# Altium footprint library footprint_hall_crossboard_1_1_library.PcbLib: 95 footprints (part 2 of 7)
Each footprint in its own frame and in the unit in brackets; x right, y up, seen from the top. Pads: shape width x height; smd on the part's side, far side on the other; paste and mask are expansions set on the pad; w line width, h text height; cw(c..) or ccw(c..) is an arc to the next point about the centre after c.
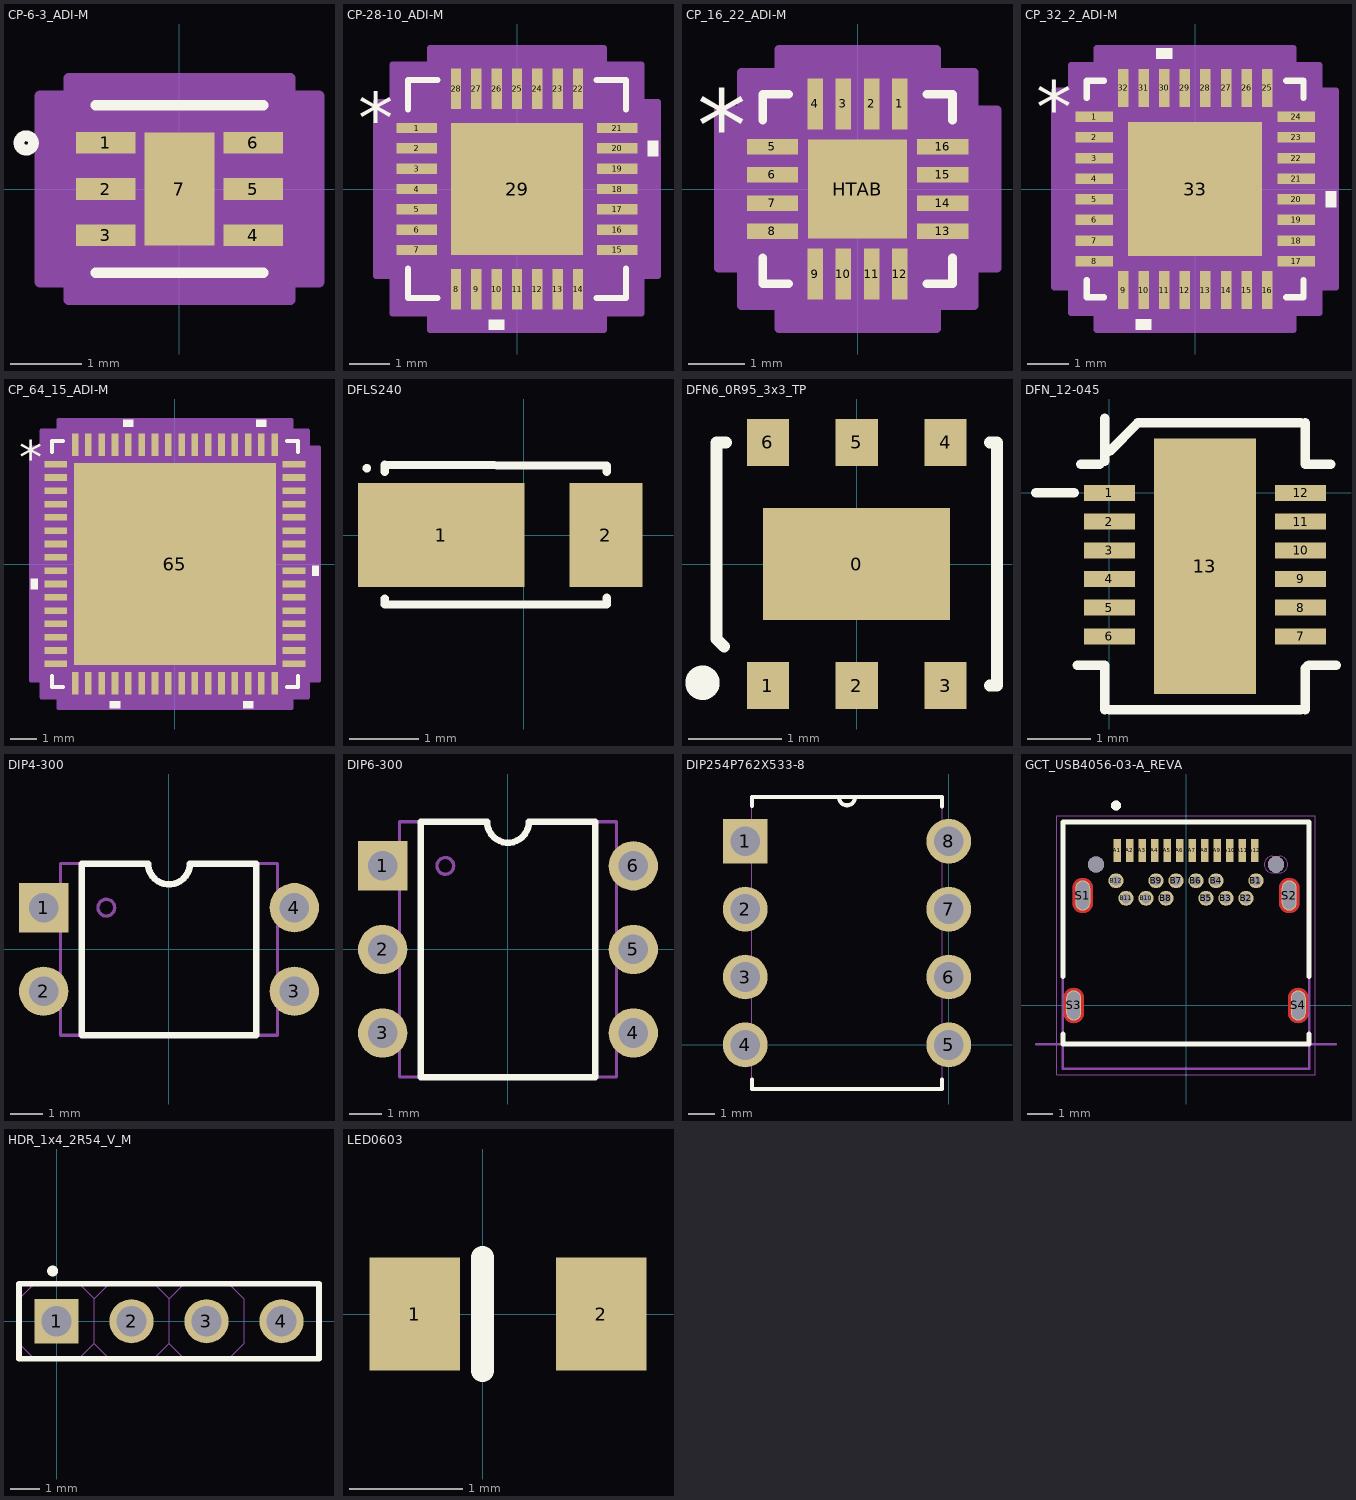
[diagram p1: the footprints below, top view; thin cyan lines are the x and y axes]

## CP-6-3_ADI-M [mil]
pads (7):
  rect 33x12 smd paste+0 mask+0: 1(-41,25.59) 2(-41,0) 3(-41,-25.59) 4(41,-25.59) 5(41,0) 6(41,25.59)
  rect 39x63 smd paste+0 mask+0: 7(0,0)
Top Overlay:
  circle w6: c-85.09,25.59 r4
  lines w6: -46.5,-46.5 46.5,-46.5 ; -46.5,46.5 46.5,46.5
Mechanical 13:
  circle w0: c-24.5,25.59 r3
  lines w0: -12,41.5 ccw(c0,41.5) 12,41.5
  lines w1: -41.5,-41.5 -41.5,41.5 41.5,41.5 41.5,-41.5 -41.5,-41.5
Mechanical 15:
  region: -61.5,-51.59 -77.5,-51.59 -77.5,51.59 -61.5,51.59 -61.5,61.5 61.5,61.5 61.5,51.59 77.5,51.59 77.5,-51.59 61.5,-51.59 61.5,-61.5 -61.5,-61.5
  lines w6: -77.5,-51.59 -61.5,-51.59 -61.5,-61.5 61.5,-61.5 61.5,-51.59 77.5,-51.59 77.5,51.59 61.5,51.59 61.5,61.5 -61.5,61.5 -61.5,51.59 -77.5,51.59 -77.5,-51.59
3D body "CP-6-3_ADI.step": height 24.09, standoff 0, extent -41.5,-41.5 41.5,41.5

## CP-28-10_ADI-M [mil]
pads (29):
  rect 39x10 smd paste+0 mask+0: 1(-97,59.06) 2(-97,39.37) 3(-97,19.68) 4(-97,0) 5(-97,-19.68) 6(-97,-39.37) 7(-97,-59.06) 15(97,-59.06) 16(97,-39.37) 17(97,-19.68) 18(97,0) 19(97,19.68) 20(97,39.37) 21(97,59.06)
  rect 10x39 smd paste+0 mask+0: 8(-59.06,-97) 9(-39.37,-97) 10(-19.68,-97) 11(0,-97) 12(19.68,-97) 13(39.37,-97) 14(59.06,-97) 22(59.06,97) 23(39.37,97) 24(19.68,97) 25(0,97) 26(-19.68,97) 27(-39.37,97) 28(-59.06,97)
  rect 128x128 smd paste-64 mask+0: 29(0,0)
Top Overlay:
  region: 126.5,46.87 136.5,46.87 136.5,31.87 126.5,31.87
  region: -12.19,-126.5 -27.18,-126.5 -27.18,-136.5 -12.19,-136.5
  lines w6: -105.5,-77.16 -105.5,-105.5 -77.16,-105.5 ; -105.5,77.16 -105.5,105.5 -77.16,105.5 ; 77.16,-105.5 105.5,-105.5 105.5,-77.16 ; 77.16,105.5 105.5,105.5 105.5,77.16
  text "*" at -154,43.9 h50
Top Paste:
  region: 60.06,-3.94 3.94,-3.94 3.94,-60.06 60.06,-60.06
  region: 60.06,60.06 3.94,60.06 3.94,3.94 60.06,3.94
  region: -3.94,-3.94 -60.06,-3.94 -60.06,-60.06 -3.94,-60.06
  region: -3.94,60.06 -60.06,60.06 -60.06,3.94 -3.94,3.94
Mechanical 13:
  lines w1: -100.5,50.5 -50.5,100.5 ; -100.5,-100.5 -100.5,100.5 100.5,100.5 100.5,-100.5 -100.5,-100.5 ; -100.5,-65.06 -100.5,-53.06 -100.5,-65.06 ; -100.5,-45.37 -100.5,-33.37 -100.5,-45.37 ; -100.5,-25.68 -100.5,-13.69 -100.5,-25.68 ; -100.5,-6 -100.5,6 -100.5,-6 ; -100.5,13.69 -100.5,25.68 -100.5,13.69 ; -100.5,33.37 -100.5,45.37 -100.5,33.37 ; -100.5,53.06 -100.5,65.06 -100.5,53.06 ; -65.06,-100.5 -53.06,-100.5 -65.06,-100.5 ; -65.06,100.5 -53.06,100.5 -65.06,100.5 ; -45.37,-100.5 -33.37,-100.5 -45.37,-100.5 ; -45.37,100.5 -33.37,100.5 -45.37,100.5 ; -25.68,-100.5 -13.69,-100.5 -25.68,-100.5 ; -25.68,100.5 -13.69,100.5 -25.68,100.5 ; -6,-100.5 6,-100.5 -6,-100.5 ; -6,100.5 6,100.5 -6,100.5 ; 13.69,-100.5 25.68,-100.5 13.69,-100.5 ; 13.69,100.5 25.68,100.5 13.69,100.5 ; 33.37,-100.5 45.37,-100.5 33.37,-100.5 ; 33.37,100.5 45.37,100.5 33.37,100.5 ; 53.06,-100.5 65.06,-100.5 53.06,-100.5 ; 53.06,100.5 65.06,100.5 53.06,100.5 ; 100.5,-65.06 100.5,-53.06 100.5,-65.06 ; 100.5,-45.37 100.5,-33.37 100.5,-45.37 ; 100.5,-25.68 100.5,-13.69 100.5,-25.68 ; 100.5,-6 100.5,6 100.5,-6 ; 100.5,13.69 100.5,25.68 100.5,13.69 ; 100.5,33.37 100.5,45.37 100.5,33.37 ; 100.5,53.06 100.5,65.06 100.5,53.06
  text "*" at -90,43.9 h50
Mechanical 15:
  region: -84.06,-120.5 -120.5,-120.5 -120.5,-84.06 -136.5,-84.06 -136.5,84.06 -120.5,84.06 -120.5,120.5 -84.06,120.5 -84.06,136.5 84.06,136.5 84.06,120.5 120.5,120.5 120.5,84.06 136.5,84.06 136.5,-84.06 120.5,-84.06 120.5,-120.5 84.06,-120.5 84.06,-136.5 -84.06,-136.5
  lines w6: -136.5,-84.06 -136.5,84.06 -120.5,84.06 -120.5,120.5 -84.06,120.5 -84.06,136.5 84.06,136.5 84.06,120.5 120.5,120.5 120.5,84.06 136.5,84.06 136.5,-84.06 120.5,-84.06 120.5,-120.5 84.06,-120.5 84.06,-136.5 -84.06,-136.5 -84.06,-120.5 -120.5,-120.5 -120.5,-84.06 -136.5,-84.06
3D body "CP-28-10_ADI.step": height 32.09, standoff 0, extent -100.51,-100.51 100.51,100.51

## CP_16_22_ADI-M [mm]
pads (17):
  rect 0.275x0.906 smd paste+0 mask+0: 1(0.75,1.503) 2(0.25,1.503) 3(-0.25,1.503) 4(-0.75,1.503) 9(-0.75,-1.503) 10(-0.25,-1.503) 11(0.25,-1.503) 12(0.75,-1.503)
  rect 0.906x0.275 smd paste+0 mask+0: 5(-1.503,0.75) 6(-1.503,0.25) 7(-1.503,-0.25) 8(-1.503,-0.75) 13(1.503,-0.75) 14(1.503,-0.25) 15(1.503,0.25) 16(1.503,0.75)
  rect 1.75x1.75 smd paste+0 mask+0: HTAB(0,0)
Top Overlay:
  lines w0.152: -1.677,-1.22 -1.677,-1.677 -1.22,-1.677 ; -1.677,1.22 -1.677,1.677 -1.22,1.677 ; 1.22,-1.677 1.677,-1.677 1.677,-1.22 ; 1.22,1.677 1.677,1.677 1.677,1.22
  text "*" at -2.837,0.496 h1.27
Mechanical 13:
  lines w0.025: -1.55,-1.55 -1.55,1.55 1.55,1.55 1.55,-1.55 -1.55,-1.55 ; -1.55,-0.9 -1.55,-0.6 -1.55,-0.9 ; -1.55,-0.4 -1.55,-0.1 -1.55,-0.4 ; -1.55,0.1 -1.55,0.4 -1.55,0.1 ; -1.55,0.6 -1.55,0.9 -1.55,0.6 ; -0.9,-1.55 -0.6,-1.55 -0.9,-1.55 ; -0.9,1.55 -0.6,1.55 -0.9,1.55 ; -0.4,-1.55 -0.1,-1.55 -0.4,-1.55 ; -0.4,1.55 -0.1,1.55 -0.4,1.55 ; 0.1,-1.55 0.4,-1.55 0.1,-1.55 ; 0.1,1.55 0.4,1.55 0.1,1.55 ; 0.6,-1.55 0.9,-1.55 0.6,-1.55 ; 0.6,1.55 0.9,1.55 0.6,1.55 ; 1.55,-0.9 1.55,-0.6 1.55,-0.9 ; 1.55,-0.4 1.55,-0.1 1.55,-0.4 ; 1.55,0.1 1.55,0.4 1.55,0.1 ; 1.55,0.6 1.55,0.9 1.55,0.6
  text "*" at -1.408,0.585 h0.64
Mechanical 15:
  region: -1.395,-2.058 -2.058,-2.058 -2.058,-1.395 -2.464,-1.395 -2.464,1.395 -2.058,1.395 -2.058,2.058 -1.395,2.058 -1.395,2.464 1.395,2.464 1.395,2.058 2.058,2.058 2.058,1.395 2.464,1.395 2.464,-1.395 2.058,-1.395 2.058,-2.058 1.395,-2.058 1.395,-2.464 -1.395,-2.464
  lines w0.152: -2.464,-1.395 -2.464,1.395 -2.058,1.395 -2.058,2.058 -1.395,2.058 -1.395,2.464 1.395,2.464 1.395,2.058 2.058,2.058 2.058,1.395 2.464,1.395 2.464,-1.395 2.058,-1.395 2.058,-2.058 1.395,-2.058 1.395,-2.464 -1.395,-2.464 -1.395,-2.058 -2.058,-2.058 -2.058,-1.395 -2.464,-1.395
3D body "CP_16_22_ADI.step": height 0.8, standoff 0, extent -1.55,-1.55 1.55,1.55

## CP_32_2_ADI-M [mil]
pads (33):
  rect 36x10 smd paste+0 mask+0: 1(-96.5,68.9) 2(-96.5,49.21) 3(-96.5,29.53) 4(-96.5,9.84) 5(-96.5,-9.84) 6(-96.5,-29.53) 7(-96.5,-49.21) 8(-96.5,-68.9) 17(96.5,-68.9) 18(96.5,-49.21) 19(96.5,-29.53) 20(96.5,-9.84) 21(96.5,9.84) 22(96.5,29.53) 23(96.5,49.21) 24(96.5,68.9)
  rect 10x36 smd paste+0 mask+0: 9(-68.9,-96.5) 10(-49.21,-96.5) 11(-29.53,-96.5) 12(-9.84,-96.5) 13(9.84,-96.5) 14(29.53,-96.5) 15(49.21,-96.5) 16(68.9,-96.5) 25(68.9,96.5) 26(49.21,96.5) 27(29.53,96.5) 28(9.84,96.5) 29(-9.84,96.5) 30(-29.53,96.5) 31(-49.21,96.5) 32(-68.9,96.5)
  rect 128x128 smd paste-64 mask+0: 33(0,0)
Top Overlay:
  region: -41.71,-124.5 -56.71,-124.5 -56.71,-134.5 -41.71,-134.5
  region: 124.5,-2.34 134.5,-2.34 134.5,-17.34 124.5,-17.34
  region: -22.03,124.5 -37.03,124.5 -37.03,134.5 -22.03,134.5
  lines w6: -103.5,-87 -103.5,-103.5 -87,-103.5 ; -103.5,87 -103.5,103.5 -87,103.5 ; 87,-103.5 103.5,-103.5 103.5,-87 ; 87,103.5 103.5,103.5 103.5,87
  text "*" at -152,53.74 h50
Top Paste:
  region: -3.94,60.06 -60.06,60.06 -60.06,3.94 -3.94,3.94
  region: -3.94,-3.94 -60.06,-3.94 -60.06,-60.06 -3.94,-60.06
  region: 60.06,60.06 3.94,60.06 3.94,3.94 60.06,3.94
  region: 60.06,-3.94 3.94,-3.94 3.94,-60.06 60.06,-60.06
Mechanical 13:
  lines w1: -98.5,48.5 -48.5,98.5 ; -98.5,-98.5 98.5,-98.5 98.5,98.5 -98.5,98.5 -98.5,-98.5 ; -98.5,-74.9 -98.5,-62.9 -98.5,-74.9 ; -98.5,-55.21 -98.5,-43.21 -98.5,-55.21 ; -98.5,-35.53 -98.5,-23.53 -98.5,-35.53 ; -98.5,-15.84 -98.5,-3.84 -98.5,-15.84 ; -98.5,3.84 -98.5,15.84 -98.5,3.84 ; -98.5,23.53 -98.5,35.53 -98.5,23.53 ; -98.5,43.21 -98.5,55.21 -98.5,43.21 ; -98.5,62.9 -98.5,74.9 -98.5,62.9 ; -74.9,-98.5 -62.9,-98.5 -74.9,-98.5 ; -74.9,98.5 -62.9,98.5 -74.9,98.5 ; -55.21,-98.5 -43.21,-98.5 -55.21,-98.5 ; -55.21,98.5 -43.21,98.5 -55.21,98.5 ; -35.53,-98.5 -23.53,-98.5 -35.53,-98.5 ; -35.53,98.5 -23.53,98.5 -35.53,98.5 ; -15.84,-98.5 -3.84,-98.5 -15.84,-98.5 ; -15.84,98.5 -3.84,98.5 -15.84,98.5 ; 3.84,-98.5 15.84,-98.5 3.84,-98.5 ; 3.84,98.5 15.84,98.5 3.84,98.5 ; 23.53,-98.5 35.53,-98.5 23.53,-98.5 ; 23.53,98.5 35.53,98.5 23.53,98.5 ; 43.21,-98.5 55.21,-98.5 43.21,-98.5 ; 43.21,98.5 55.21,98.5 43.21,98.5 ; 62.9,-98.5 74.9,-98.5 62.9,-98.5 ; 62.9,98.5 74.9,98.5 62.9,98.5 ; 98.5,-74.9 98.5,-62.9 98.5,-74.9 ; 98.5,-55.21 98.5,-43.21 98.5,-55.21 ; 98.5,-35.53 98.5,-23.53 98.5,-35.53 ; 98.5,-15.84 98.5,-3.84 98.5,-15.84 ; 98.5,3.84 98.5,15.84 98.5,3.84 ; 98.5,23.53 98.5,35.53 98.5,23.53 ; 98.5,43.21 98.5,55.21 98.5,43.21 ; 98.5,62.9 98.5,74.9 98.5,62.9
  text "*" at -91,53.74 h50
Mechanical 15:
  region: -93.9,-118.5 -118.5,-118.5 -118.5,-93.9 -134.5,-93.9 -134.5,93.9 -118.5,93.9 -118.5,118.5 -93.9,118.5 -93.9,134.5 93.9,134.5 93.9,118.5 118.5,118.5 118.5,93.9 134.5,93.9 134.5,-93.9 118.5,-93.9 118.5,-118.5 93.9,-118.5 93.9,-134.5 -93.9,-134.5
  lines w6: -134.5,-93.9 -118.5,-93.9 -118.5,-118.5 -93.9,-118.5 -93.9,-134.5 93.9,-134.5 93.9,-118.5 118.5,-118.5 118.5,-93.9 134.5,-93.9 134.5,93.9 118.5,93.9 118.5,118.5 93.9,118.5 93.9,134.5 -93.9,134.5 -93.9,118.5 -118.5,118.5 -118.5,93.9 -134.5,93.9 -134.5,-93.9
3D body "CP_32_2_ADI.step": height 39.09, standoff 0, extent -98.5,-98.5 98.5,98.5

## CP_64_15_ADI-M [mm]
pads (65):
  rect 0.856x0.249 smd paste+0 mask+0: 1(-4.478,3.75) 2(-4.478,3.25) 3(-4.478,2.75) 4(-4.478,2.25) 5(-4.478,1.75) 6(-4.478,1.25) 7(-4.478,0.75) 8(-4.478,0.25) 9(-4.478,-0.25) 10(-4.478,-0.75) 11(-4.478,-1.25) 12(-4.478,-1.75) 13(-4.478,-2.25) 14(-4.478,-2.75) 15(-4.478,-3.25) 16(-4.478,-3.75) 33(4.478,-3.75) 34(4.478,-3.25) 35(4.478,-2.75) 36(4.478,-2.25) 37(4.478,-1.75) 38(4.478,-1.25) 39(4.478,-0.75) 40(4.478,-0.25) 41(4.478,0.25) 42(4.478,0.75) 43(4.478,1.25) 44(4.478,1.75) 45(4.478,2.25) 46(4.478,2.75) 47(4.478,3.25) 48(4.478,3.75)
  rect 0.249x0.856 smd paste+0 mask+0: 17(-3.75,-4.478) 18(-3.25,-4.478) 19(-2.75,-4.478) 20(-2.25,-4.478) 21(-1.75,-4.478) 22(-1.25,-4.478) 23(-0.75,-4.478) 24(-0.25,-4.478) 25(0.25,-4.478) 26(0.75,-4.478) 27(1.25,-4.478) 28(1.75,-4.478) 29(2.25,-4.478) 30(2.75,-4.478) 31(3.25,-4.478) 32(3.75,-4.478) 49(3.75,4.478) 50(3.25,4.478) 51(2.75,4.478) 52(2.25,4.478) 53(1.75,4.478) 54(1.25,4.478) 55(0.75,4.478) 56(0.25,4.478) 57(-0.25,4.478) 58(-0.75,4.478) 59(-1.25,4.478) 60(-1.75,4.478) 61(-2.25,4.478) 62(-2.75,4.478) 63(-3.25,4.478) 64(-3.75,4.478)
  rect 7.6x7.6 smd paste-3.787 mask+0: 65(0,0)
Top Overlay:
  region: -5.16,-0.56 -5.414,-0.56 -5.414,-0.941 -5.16,-0.941
  region: -2.06,-5.16 -2.441,-5.16 -2.441,-5.414 -2.06,-5.414
  region: 2.94,-5.16 2.559,-5.16 2.559,-5.414 2.94,-5.414
  region: 5.16,-0.059 5.414,-0.059 5.414,-0.44 5.16,-0.44
  region: 3.441,5.16 3.06,5.16 3.06,5.414 3.441,5.414
  region: -1.559,5.16 -1.94,5.16 -1.94,5.414 -1.559,5.414
  lines w0.152: -4.627,-4.207 -4.627,-4.627 -4.207,-4.627 ; -4.627,4.207 -4.627,4.627 -4.207,4.627 ; 4.207,-4.627 4.627,-4.627 4.627,-4.207 ; 4.207,4.627 4.627,4.627 4.627,4.207
  text "*" at -5.859,3.365 h1.27
Top Paste:
  region: -2.38,3.7 -3.7,3.7 -3.7,2.38 -2.38,2.38
  region: -2.38,2.18 -3.7,2.18 -3.7,0.86 -2.38,0.86
  region: -2.38,0.66 -3.7,0.66 -3.7,-0.66 -2.38,-0.66
  region: -2.38,-0.86 -3.7,-0.86 -3.7,-2.18 -2.38,-2.18
  region: -2.38,-2.38 -3.7,-2.38 -3.7,-3.7 -2.38,-3.7
  region: -0.86,3.7 -2.18,3.7 -2.18,2.38 -0.86,2.38
  region: -0.86,2.18 -2.18,2.18 -2.18,0.86 -0.86,0.86
  region: -0.86,0.66 -2.18,0.66 -2.18,-0.66 -0.86,-0.66
  region: -0.86,-0.86 -2.18,-0.86 -2.18,-2.18 -0.86,-2.18
  region: -0.86,-2.38 -2.18,-2.38 -2.18,-3.7 -0.86,-3.7
  region: 0.66,3.7 -0.66,3.7 -0.66,2.38 0.66,2.38
  region: 0.66,2.18 -0.66,2.18 -0.66,0.86 0.66,0.86
  region: 0.66,0.66 -0.66,0.66 -0.66,-0.66 0.66,-0.66
  region: 0.66,-0.86 -0.66,-0.86 -0.66,-2.18 0.66,-2.18
  region: 0.66,-2.38 -0.66,-2.38 -0.66,-3.7 0.66,-3.7
  region: 2.18,3.7 0.86,3.7 0.86,2.38 2.18,2.38
  region: 2.18,2.18 0.86,2.18 0.86,0.86 2.18,0.86
  region: 2.18,0.66 0.86,0.66 0.86,-0.66 2.18,-0.66
  region: 2.18,-0.86 0.86,-0.86 0.86,-2.18 2.18,-2.18
  region: 2.18,-2.38 0.86,-2.38 0.86,-3.7 2.18,-3.7
  region: 3.7,3.7 2.38,3.7 2.38,2.38 3.7,2.38
  region: 3.7,2.18 2.38,2.18 2.38,0.86 3.7,0.86
  region: 3.7,0.66 2.38,0.66 2.38,-0.66 3.7,-0.66
  region: 3.7,-0.86 2.38,-0.86 2.38,-2.18 3.7,-2.18
  region: 3.7,-2.38 2.38,-2.38 2.38,-3.7 3.7,-3.7
Mechanical 13:
  lines w0.025: -4.5,3.23 -3.23,4.5 ; -4.5,-4.5 4.5,-4.5 4.5,4.5 -4.5,4.5 -4.5,-4.5 ; -4.5,-3.9 -4.5,-3.6 -4.5,-3.9 ; -4.5,-3.4 -4.5,-3.1 -4.5,-3.4 ; -4.5,-2.9 -4.5,-2.6 -4.5,-2.9 ; -4.5,-2.4 -4.5,-2.1 -4.5,-2.4 ; -4.5,-1.9 -4.5,-1.6 -4.5,-1.9 ; -4.5,-1.4 -4.5,-1.1 -4.5,-1.4 ; -4.5,-0.9 -4.5,-0.6 -4.5,-0.9 ; -4.5,-0.4 -4.5,-0.1 -4.5,-0.4 ; -4.5,0.1 -4.5,0.4 -4.5,0.1 ; -4.5,0.6 -4.5,0.9 -4.5,0.6 ; -4.5,1.1 -4.5,1.4 -4.5,1.1 ; -4.5,1.6 -4.5,1.9 -4.5,1.6 ; -4.5,2.1 -4.5,2.4 -4.5,2.1 ; -4.5,2.6 -4.5,2.9 -4.5,2.6 ; -4.5,3.1 -4.5,3.4 -4.5,3.1 ; -4.5,3.6 -4.5,3.9 -4.5,3.6 ; -3.9,-4.5 -3.6,-4.5 -3.9,-4.5 ; -3.9,4.5 -3.6,4.5 -3.9,4.5 ; -3.4,-4.5 -3.1,-4.5 -3.4,-4.5 ; -3.4,4.5 -3.1,4.5 -3.4,4.5 ; -2.9,-4.5 -2.6,-4.5 -2.9,-4.5 ; -2.9,4.5 -2.6,4.5 -2.9,4.5 ; -2.4,-4.5 -2.1,-4.5 -2.4,-4.5 ; -2.4,4.5 -2.1,4.5 -2.4,4.5 ; -1.9,-4.5 -1.6,-4.5 -1.9,-4.5 ; -1.9,4.5 -1.6,4.5 -1.9,4.5 ; -1.4,-4.5 -1.1,-4.5 -1.4,-4.5 ; -1.4,4.5 -1.1,4.5 -1.4,4.5 ; -0.9,-4.5 -0.6,-4.5 -0.9,-4.5 ; -0.9,4.5 -0.6,4.5 -0.9,4.5 ; -0.4,-4.5 -0.1,-4.5 -0.4,-4.5 ; -0.4,4.5 -0.1,4.5 -0.4,4.5 ; 0.1,-4.5 0.4,-4.5 0.1,-4.5 ; 0.1,4.5 0.4,4.5 0.1,4.5 ; 0.6,-4.5 0.9,-4.5 0.6,-4.5 ; 0.6,4.5 0.9,4.5 0.6,4.5 ; 1.1,-4.5 1.4,-4.5 1.1,-4.5 ; 1.1,4.5 1.4,4.5 1.1,4.5 ; 1.6,-4.5 1.9,-4.5 1.6,-4.5 ; 1.6,4.5 1.9,4.5 1.6,4.5 ; 2.1,-4.5 2.4,-4.5 2.1,-4.5 ; 2.1,4.5 2.4,4.5 2.1,4.5 ; 2.6,-4.5 2.9,-4.5 2.6,-4.5 ; 2.6,4.5 2.9,4.5 2.6,4.5 ; 3.1,-4.5 3.4,-4.5 3.1,-4.5 ; 3.1,4.5 3.4,4.5 3.1,4.5 ; 3.6,-4.5 3.9,-4.5 3.6,-4.5 ; 3.6,4.5 3.9,4.5 3.6,4.5 ; 4.5,-3.9 4.5,-3.6 4.5,-3.9 ; 4.5,-3.4 4.5,-3.1 4.5,-3.4 ; 4.5,-2.9 4.5,-2.6 4.5,-2.9 ; 4.5,-2.4 4.5,-2.1 4.5,-2.4 ; 4.5,-1.9 4.5,-1.6 4.5,-1.9 ; 4.5,-1.4 4.5,-1.1 4.5,-1.4 ; 4.5,-0.9 4.5,-0.6 4.5,-0.9 ; 4.5,-0.4 4.5,-0.1 4.5,-0.4 ; 4.5,0.1 4.5,0.4 4.5,0.1 ; 4.5,0.6 4.5,0.9 4.5,0.6 ; 4.5,1.1 4.5,1.4 4.5,1.1 ; 4.5,1.6 4.5,1.9 4.5,1.6 ; 4.5,2.1 4.5,2.4 4.5,2.1 ; 4.5,2.6 4.5,2.9 4.5,2.6 ; 4.5,3.1 4.5,3.4 4.5,3.1 ; 4.5,3.6 4.5,3.9 4.5,3.6
  text "*" at -4.367,3.365 h1.27
Mechanical 15:
  region: -4.383,-5.008 -5.008,-5.008 -5.008,-4.383 -5.414,-4.383 -5.414,4.383 -5.008,4.383 -5.008,5.008 -4.383,5.008 -4.383,5.414 4.383,5.414 4.383,5.008 5.008,5.008 5.008,4.383 5.414,4.383 5.414,-4.383 5.008,-4.383 5.008,-5.008 4.383,-5.008 4.383,-5.414 -4.383,-5.414
  lines w0.152: -5.414,-4.383 -5.008,-4.383 -5.008,-5.008 -4.383,-5.008 -4.383,-5.414 4.383,-5.414 4.383,-5.008 5.008,-5.008 5.008,-4.383 5.414,-4.383 5.414,4.383 5.008,4.383 5.008,5.008 4.383,5.008 4.383,5.414 -4.383,5.414 -4.383,5.008 -5.008,5.008 -5.008,4.383 -5.414,4.383 -5.414,-4.383
3D body "CP_64_15_ADI.step": height 0.99, standoff 0, extent -4.5,-4.5 4.5,4.5

## DFLS240 [mil]
pads (2):
  rect 94.5x59.1 smd: 1(-46.7,0)
  rect 41.3x59.1 smd: 2(46.8,0)
Top Layer:
  pour cut-out: 5,-80
Top Overlay:
  circle w4.7: c-89,38 r0.1
  lines w4.7: -78.8,40 47.1,39.4 ; -78.7,-36 -78.7,-39.4 47.2,-39.4 ; -78.7,36 -78.7,39.4 ; 47.3,-39 47.3,-35.6 ; 47.3,36 47.3,39.4

## DFN6_0R95_3x3_TP [mm] "500 mA low quiescent current and low noise voltage regulator"
height 1
pads (7):
  rect 2x1.2 smd: 0(0,0)
  rect 0.45x0.5 smd: 1(-0.95,-1.3) 2(0,-1.3) 3(0.95,-1.3) 4(0.95,1.3) 5(0,1.3) 6(-0.95,1.3)
Top Overlay:
  circle w0.25: c-1.649,-1.27 r0.059
  lines w0.127: -1.417,-0.883 -1.5,-0.8 -1.5,1.3 -1.397,1.3 ; 1.422,-1.3 1.5,-1.3 1.5,1.3 1.422,1.3
3D body: height 1, standoff 0.05, extent -1.5,-1.5 1.5,1.5

## DFN_12-045 [mm] "0.45mm pitch 12pin"
height 0.75
pads (13):
  rect 0.8x0.25 smd: 1(0,0) 2(0,-0.45) 3(0,-0.9) 4(0,-1.35) 5(0,-1.8) 6(0,-2.25) 7(3,-2.25) 8(3,-1.8) 9(3,-1.35) 10(3,-0.9) 11(3,-0.45) 12(3,0)
  rect 1.6x4 smd: 13(1.5,-1.15)
Top Overlay:
  lines w0.15: -1.15,0 -0.55,0 ; -0.5,-2.7 -0.075,-2.7 -0.075,-3.4 ; -0.45,0.45 -0.15,0.45 ; -0.075,0.5 -0.075,1.17 ; 0,-3.4 3,-3.4 ; 0,0.65 0.45,1.1 3,1.1 ; 3.075,-3.4 3.075,-2.75 3.125,-2.7 3.3,-2.7 3.555,-2.7 ; 3.075,1.1 3.075,0.45 3.475,0.45
3D body: height 0.75, standoff 0, extent 0,-2.625 3,0.375

## DIP4-300 [mm] "DIP 4 Leads, Row Spacing 7.62 mm; Pitch 2.54 mm"
height 5.08
pads (4):
  rect 1.5x1.5 hole 0.9: 1(-3.81,1.27)
  round 1.5 hole 0.9: 2(-3.81,-1.27) 3(3.81,-1.27) 4(3.81,1.27)
Top Overlay:
  lines w0.2: -0.635,2.61 ccw(c0,2.61) 0.635,2.61 ; -0.635,2.61 ccw(c0,2.61) 0.635,2.61 ; -0.635,2.61 -2.65,2.61 -2.65,-2.61 2.65,-2.61 2.65,2.61 0.635,2.61
Mechanical 14:
  circle w0.1: c-1.905,1.27 r0.254
  lines w0.1: -3.3,-2.61 3.3,-2.61 3.3,2.61 0.635,2.61 cw(c0,2.61) -0.635,2.61 -3.3,2.61 -3.3,-2.61
3D body "DIP4-300.stp": height 5.33, standoff -3.3, extent -3.935,-2.54 3.935,2.54

## DIP6-300 [mm] "DIP 6 Leads, Row Spacing 7.62 mm; Pitch 2.54 mm"
height 5.08
pads (6):
  rect 1.5x1.5 hole 0.9: 1(-3.81,2.54)
  round 1.5 hole 0.9: 2(-3.81,0) 3(-3.81,-2.54) 4(3.81,-2.54) 5(3.81,0) 6(3.81,2.54)
Top Overlay:
  lines w0.2: -0.635,3.88 ccw(c0,3.88) 0.635,3.88 ; -0.635,3.88 ccw(c0,3.88) 0.635,3.88 ; -0.635,3.88 -2.65,3.88 -2.65,-3.88 2.65,-3.88 2.65,3.88 0.635,3.88
Mechanical 14:
  circle w0.1: c-1.905,2.54 r0.254
  lines w0.1: -3.3,-3.88 3.3,-3.88 3.3,3.88 0.635,3.88 cw(c0,3.88) -0.635,3.88 -3.3,3.88 -3.3,-3.88
3D body "DIP6-300.stp": height 5.33, standoff -3.3, extent -3.935,-3.81 3.935,3.81

## DIP254P762X533-8 [mil]
pads (8):
  rect 66x66 hole 44: 1(-300,300)
  round 66 hole 44: 2(-300,200) 3(-300,100) 4(-300,0) 5(0,0) 6(0,100) 7(0,200) 8(0,300)
Top Overlay:
  lines w6: -290,-51 -290,-65 -10,-65 -10,-51 ; -290,352 -290,365 -162,365 ; -10,351 -10,365 -138,365 ; -162,365 ccw(c-150,365) -138,365 ; -162,365 -138,365
Mechanical 13:
  lines w0: -162,365 ccw(c-150,365) -138,365 ; -162,365 -138,365 ; -162,365 -290,365 -290,-65 -10,-65 -10,365 -138,365 ; -322,-22 -322,22 -290,22 -290,-22 -322,-22 ; -322,78 -322,122 -290,122 -290,78 -322,78 ; -322,178 -322,222 -290,222 -290,178 -322,178 ; -322,278 -322,322 -290,322 -290,278 -322,278 ; -10,-22 -10,22 22,22 22,-22 -10,-22 ; -10,78 -10,122 22,122 22,78 -10,78 ; -10,178 -10,222 22,222 22,178 -10,178 ; -10,278 -10,322 22,322 22,278 -10,278

## GCT_USB4056-03-A_REVA [mm]
height 3.31
pads (30):
  rect 0.3x0.9 smd: A1(-2.75,6.2) A2(-2.25,6.2) A3(-1.75,6.2) A4(-1.25,6.2) A5(-0.75,6.2) A6(-0.25,6.2) A7(0.25,6.2) A8(0.75,6.2) A9(1.25,6.2) A10(1.75,6.2) A11(2.25,6.2) A12(2.75,6.2)
  round 0.6 hole 0.4: B1(2.8,4.99) B2(2.4,4.29) B3(1.6,4.29) B4(1.2,4.99) B5(0.8,4.29) B6(0.4,4.99) B7(-0.4,4.99) B8(-0.8,4.29) B9(-1.2,4.99) B10(-1.6,4.29) B11(-2.4,4.29) B12(-2.8,4.99)
  oval 0.6x1.2 hole 0.5 slot 1.1 at 90 deg mask+0: S1(-4.13,4.4) S2(4.13,4.4) S3(-4.49,0) S4(4.49,0)
  round 0.65 hole 0.65 unplated: ""(-3.6,5.64) ""(3.6,5.64)
Top Layer:
  region: -4.448,0.698 -4.427,0.695 -4.407,0.691 -4.386,0.686 -4.366,0.68 -4.347,0.673 -4.327,0.665 -4.308,0.656 -4.29,0.646 -4.272,0.635 -4.255,0.624 -4.238,0.611 -4.222,0.597 -4.207,0.583 -4.193,0.568 -4.179,0.552 -4.166,0.535 -4.155,0.518 -4.144,0.5 -4.134,0.482 -4.125,0.463 -4.117,0.443 -4.11,0.424 -4.104,0.404 -4.099,0.383 -4.095,0.363 -4.092,0.342 -4.09,0.3 -4.09,-0.3 -4.092,-0.342 -4.095,-0.363 -4.099,-0.383 -4.104,-0.404 -4.11,-0.424 -4.117,-0.443 -4.125,-0.463 -4.134,-0.482 -4.144,-0.5 -4.155,-0.518 -4.166,-0.535 -4.179,-0.552 -4.193,-0.568 -4.207,-0.583 -4.222,-0.597 -4.238,-0.611 -4.255,-0.624 -4.272,-0.635 -4.29,-0.646 -4.308,-0.656 -4.327,-0.665 -4.347,-0.673 -4.366,-0.68 -4.386,-0.686 -4.407,-0.691 -4.427,-0.695 -4.448,-0.698 -4.49,-0.7 -4.511,-0.699 -4.532,-0.698 -4.553,-0.695 -4.573,-0.691 -4.594,-0.686 -4.614,-0.68 -4.633,-0.673 -4.653,-0.665 -4.672,-0.656 -4.69,-0.646 -4.708,-0.635 -4.725,-0.624 -4.742,-0.611 -4.758,-0.597 -4.773,-0.583 -4.787,-0.568 -4.801,-0.552 -4.814,-0.535 -4.825,-0.518 -4.836,-0.5 -4.846,-0.482 -4.855,-0.463 -4.863,-0.443 -4.87,-0.424 -4.876,-0.404 -4.881,-0.383 -4.885,-0.363 -4.888,-0.342 -4.89,-0.3 -4.89,0.3 -4.888,0.342 -4.885,0.363 -4.881,0.383 -4.876,0.404 -4.87,0.424 -4.863,0.443 -4.855,0.463 -4.846,0.482 -4.836,0.5 -4.825,0.518 -4.814,0.535 -4.801,0.552 -4.787,0.568 -4.773,0.583 -4.758,0.597 -4.742,0.611 -4.725,0.624 -4.708,0.635 -4.69,0.646 -4.672,0.656 -4.653,0.665 -4.633,0.673 -4.614,0.68 -4.594,0.686 -4.573,0.691 -4.553,0.695 -4.532,0.698 -4.511,0.699 -4.49,0.7
  region: 4.511,0.699 4.532,0.698 4.553,0.695 4.573,0.691 4.594,0.686 4.614,0.68 4.633,0.673 4.653,0.665 4.672,0.656 4.69,0.646 4.708,0.635 4.725,0.624 4.742,0.611 4.758,0.597 4.773,0.583 4.787,0.568 4.801,0.552 4.814,0.535 4.825,0.518 4.836,0.5 4.846,0.482 4.855,0.463 4.863,0.443 4.87,0.424 4.876,0.404 4.881,0.383 4.885,0.363 4.888,0.342 4.89,0.3 4.89,-0.3 4.888,-0.342 4.885,-0.363 4.881,-0.383 4.876,-0.404 4.87,-0.424 4.863,-0.443 4.855,-0.463 4.846,-0.482 4.836,-0.5 4.825,-0.518 4.814,-0.535 4.801,-0.552 4.787,-0.568 4.773,-0.583 4.758,-0.597 4.742,-0.611 4.725,-0.624 4.708,-0.635 4.69,-0.646 4.672,-0.656 4.653,-0.665 4.633,-0.673 4.614,-0.68 4.594,-0.686 4.573,-0.691 4.553,-0.695 4.532,-0.698 4.511,-0.699 4.49,-0.7 4.448,-0.698 4.427,-0.695 4.407,-0.691 4.386,-0.686 4.366,-0.68 4.347,-0.673 4.327,-0.665 4.308,-0.656 4.29,-0.646 4.272,-0.635 4.255,-0.624 4.238,-0.611 4.222,-0.597 4.207,-0.583 4.193,-0.568 4.179,-0.552 4.166,-0.535 4.155,-0.518 4.144,-0.5 4.134,-0.482 4.125,-0.463 4.117,-0.443 4.11,-0.424 4.104,-0.404 4.099,-0.383 4.095,-0.363 4.092,-0.342 4.09,-0.3 4.09,0.3 4.092,0.342 4.095,0.363 4.099,0.383 4.104,0.404 4.11,0.424 4.117,0.443 4.125,0.463 4.134,0.482 4.144,0.5 4.155,0.518 4.166,0.535 4.179,0.552 4.193,0.568 4.207,0.583 4.222,0.597 4.238,0.611 4.255,0.624 4.272,0.635 4.29,0.646 4.308,0.656 4.327,0.665 4.347,0.673 4.366,0.68 4.386,0.686 4.407,0.691 4.427,0.695 4.448,0.698 4.49,0.7
  region: -4.109,5.099 -4.088,5.098 -4.067,5.095 -4.047,5.091 -4.026,5.086 -4.006,5.08 -3.987,5.073 -3.967,5.065 -3.948,5.056 -3.93,5.046 -3.912,5.035 -3.895,5.024 -3.878,5.011 -3.862,4.997 -3.847,4.983 -3.833,4.968 -3.819,4.952 -3.806,4.935 -3.795,4.918 -3.784,4.9 -3.774,4.882 -3.765,4.863 -3.757,4.843 -3.75,4.824 -3.744,4.804 -3.739,4.783 -3.735,4.763 -3.732,4.742 -3.731,4.721 -3.73,4.7 -3.73,4.1 -3.731,4.079 -3.732,4.058 -3.735,4.037 -3.739,4.017 -3.744,3.996 -3.75,3.976 -3.757,3.957 -3.765,3.937 -3.774,3.918 -3.784,3.9 -3.795,3.882 -3.806,3.865 -3.819,3.848 -3.833,3.832 -3.847,3.817 -3.862,3.803 -3.878,3.789 -3.895,3.776 -3.912,3.765 -3.93,3.754 -3.948,3.744 -3.967,3.735 -3.987,3.727 -4.006,3.72 -4.026,3.714 -4.047,3.709 -4.067,3.705 -4.088,3.702 -4.109,3.701 -4.13,3.7 -4.151,3.701 -4.172,3.702 -4.193,3.705 -4.213,3.709 -4.234,3.714 -4.254,3.72 -4.273,3.727 -4.293,3.735 -4.312,3.744 -4.33,3.754 -4.348,3.765 -4.365,3.776 -4.382,3.789 -4.398,3.803 -4.413,3.817 -4.427,3.832 -4.441,3.848 -4.454,3.865 -4.465,3.882 -4.476,3.9 -4.486,3.918 -4.495,3.937 -4.503,3.957 -4.51,3.976 -4.516,3.996 -4.521,4.017 -4.525,4.037 -4.528,4.058 -4.529,4.079 -4.53,4.1 -4.53,4.7 -4.529,4.721 -4.528,4.742 -4.525,4.763 -4.521,4.783 -4.516,4.804 -4.51,4.824 -4.503,4.843 -4.495,4.863 -4.486,4.882 -4.476,4.9 -4.465,4.918 -4.454,4.935 -4.441,4.952 -4.427,4.968 -4.413,4.983 -4.398,4.997 -4.382,5.011 -4.365,5.024 -4.348,5.035 -4.33,5.046 -4.312,5.056 -4.293,5.065 -4.273,5.073 -4.254,5.08 -4.234,5.086 -4.213,5.091 -4.193,5.095 -4.172,5.098 -4.151,5.099 -4.13,5.1
  region: 4.151,5.099 4.172,5.098 4.193,5.095 4.213,5.091 4.234,5.086 4.254,5.08 4.273,5.073 4.293,5.065 4.312,5.056 4.33,5.046 4.348,5.035 4.365,5.024 4.382,5.011 4.398,4.997 4.413,4.983 4.427,4.968 4.441,4.952 4.454,4.935 4.465,4.918 4.476,4.9 4.486,4.882 4.495,4.863 4.503,4.843 4.51,4.824 4.516,4.804 4.521,4.783 4.525,4.763 4.528,4.742 4.529,4.721 4.53,4.7 4.53,4.1 4.529,4.079 4.528,4.058 4.525,4.037 4.521,4.017 4.516,3.996 4.51,3.976 4.503,3.957 4.495,3.937 4.486,3.918 4.476,3.9 4.465,3.882 4.454,3.865 4.441,3.848 4.427,3.832 4.413,3.817 4.398,3.803 4.382,3.789 4.365,3.776 4.348,3.765 4.33,3.754 4.312,3.744 4.293,3.735 4.273,3.727 4.254,3.72 4.234,3.714 4.213,3.709 4.193,3.705 4.172,3.702 4.151,3.701 4.13,3.7 4.109,3.701 4.088,3.702 4.067,3.705 4.047,3.709 4.026,3.714 4.006,3.72 3.987,3.727 3.967,3.735 3.948,3.744 3.93,3.754 3.912,3.765 3.895,3.776 3.878,3.789 3.862,3.803 3.847,3.817 3.833,3.832 3.819,3.848 3.806,3.865 3.795,3.882 3.784,3.9 3.774,3.918 3.765,3.937 3.757,3.957 3.75,3.976 3.744,3.996 3.739,4.017 3.735,4.037 3.732,4.058 3.731,4.079 3.73,4.1 3.73,4.7 3.731,4.721 3.732,4.742 3.735,4.763 3.739,4.783 3.744,4.804 3.75,4.824 3.757,4.843 3.765,4.863 3.774,4.882 3.784,4.9 3.795,4.918 3.806,4.935 3.819,4.952 3.833,4.968 3.847,4.983 3.862,4.997 3.878,5.011 3.895,5.024 3.912,5.035 3.93,5.046 3.948,5.056 3.967,5.065 3.987,5.073 4.006,5.08 4.026,5.086 4.047,5.091 4.067,5.095 4.088,5.098 4.109,5.099 4.13,5.1
Bottom Layer:
  region: -4.448,0.698 -4.427,0.695 -4.407,0.691 -4.386,0.686 -4.366,0.68 -4.347,0.673 -4.327,0.665 -4.308,0.656 -4.29,0.646 -4.272,0.635 -4.255,0.624 -4.238,0.611 -4.222,0.597 -4.207,0.583 -4.193,0.568 -4.179,0.552 -4.166,0.535 -4.155,0.518 -4.144,0.5 -4.134,0.482 -4.125,0.463 -4.117,0.443 -4.11,0.424 -4.104,0.404 -4.099,0.383 -4.095,0.363 -4.092,0.342 -4.09,0.3 -4.09,-0.3 -4.092,-0.342 -4.095,-0.363 -4.099,-0.383 -4.104,-0.404 -4.11,-0.424 -4.117,-0.443 -4.125,-0.463 -4.134,-0.482 -4.144,-0.5 -4.155,-0.518 -4.166,-0.535 -4.179,-0.552 -4.193,-0.568 -4.207,-0.583 -4.222,-0.597 -4.238,-0.611 -4.255,-0.624 -4.272,-0.635 -4.29,-0.646 -4.308,-0.656 -4.327,-0.665 -4.347,-0.673 -4.366,-0.68 -4.386,-0.686 -4.407,-0.691 -4.427,-0.695 -4.448,-0.698 -4.49,-0.7 -4.511,-0.699 -4.532,-0.698 -4.553,-0.695 -4.573,-0.691 -4.594,-0.686 -4.614,-0.68 -4.633,-0.673 -4.653,-0.665 -4.672,-0.656 -4.69,-0.646 -4.708,-0.635 -4.725,-0.624 -4.742,-0.611 -4.758,-0.597 -4.773,-0.583 -4.787,-0.568 -4.801,-0.552 -4.814,-0.535 -4.825,-0.518 -4.836,-0.5 -4.846,-0.482 -4.855,-0.463 -4.863,-0.443 -4.87,-0.424 -4.876,-0.404 -4.881,-0.383 -4.885,-0.363 -4.888,-0.342 -4.89,-0.3 -4.89,0.3 -4.888,0.342 -4.885,0.363 -4.881,0.383 -4.876,0.404 -4.87,0.424 -4.863,0.443 -4.855,0.463 -4.846,0.482 -4.836,0.5 -4.825,0.518 -4.814,0.535 -4.801,0.552 -4.787,0.568 -4.773,0.583 -4.758,0.597 -4.742,0.611 -4.725,0.624 -4.708,0.635 -4.69,0.646 -4.672,0.656 -4.653,0.665 -4.633,0.673 -4.614,0.68 -4.594,0.686 -4.573,0.691 -4.553,0.695 -4.532,0.698 -4.511,0.699 -4.49,0.7
  region: 4.511,0.699 4.532,0.698 4.553,0.695 4.573,0.691 4.594,0.686 4.614,0.68 4.633,0.673 4.653,0.665 4.672,0.656 4.69,0.646 4.708,0.635 4.725,0.624 4.742,0.611 4.758,0.597 4.773,0.583 4.787,0.568 4.801,0.552 4.814,0.535 4.825,0.518 4.836,0.5 4.846,0.482 4.855,0.463 4.863,0.443 4.87,0.424 4.876,0.404 4.881,0.383 4.885,0.363 4.888,0.342 4.89,0.3 4.89,-0.3 4.888,-0.342 4.885,-0.363 4.881,-0.383 4.876,-0.404 4.87,-0.424 4.863,-0.443 4.855,-0.463 4.846,-0.482 4.836,-0.5 4.825,-0.518 4.814,-0.535 4.801,-0.552 4.787,-0.568 4.773,-0.583 4.758,-0.597 4.742,-0.611 4.725,-0.624 4.708,-0.635 4.69,-0.646 4.672,-0.656 4.653,-0.665 4.633,-0.673 4.614,-0.68 4.594,-0.686 4.573,-0.691 4.553,-0.695 4.532,-0.698 4.511,-0.699 4.49,-0.7 4.448,-0.698 4.427,-0.695 4.407,-0.691 4.386,-0.686 4.366,-0.68 4.347,-0.673 4.327,-0.665 4.308,-0.656 4.29,-0.646 4.272,-0.635 4.255,-0.624 4.238,-0.611 4.222,-0.597 4.207,-0.583 4.193,-0.568 4.179,-0.552 4.166,-0.535 4.155,-0.518 4.144,-0.5 4.134,-0.482 4.125,-0.463 4.117,-0.443 4.11,-0.424 4.104,-0.404 4.099,-0.383 4.095,-0.363 4.092,-0.342 4.09,-0.3 4.09,0.3 4.092,0.342 4.095,0.363 4.099,0.383 4.104,0.404 4.11,0.424 4.117,0.443 4.125,0.463 4.134,0.482 4.144,0.5 4.155,0.518 4.166,0.535 4.179,0.552 4.193,0.568 4.207,0.583 4.222,0.597 4.238,0.611 4.255,0.624 4.272,0.635 4.29,0.646 4.308,0.656 4.327,0.665 4.347,0.673 4.366,0.68 4.386,0.686 4.407,0.691 4.427,0.695 4.448,0.698 4.49,0.7
  region: -4.109,5.099 -4.088,5.098 -4.067,5.095 -4.047,5.091 -4.026,5.086 -4.006,5.08 -3.987,5.073 -3.967,5.065 -3.948,5.056 -3.93,5.046 -3.912,5.035 -3.895,5.024 -3.878,5.011 -3.862,4.997 -3.847,4.983 -3.833,4.968 -3.819,4.952 -3.806,4.935 -3.795,4.918 -3.784,4.9 -3.774,4.882 -3.765,4.863 -3.757,4.843 -3.75,4.824 -3.744,4.804 -3.739,4.783 -3.735,4.763 -3.732,4.742 -3.731,4.721 -3.73,4.7 -3.73,4.1 -3.731,4.079 -3.732,4.058 -3.735,4.037 -3.739,4.017 -3.744,3.996 -3.75,3.976 -3.757,3.957 -3.765,3.937 -3.774,3.918 -3.784,3.9 -3.795,3.882 -3.806,3.865 -3.819,3.848 -3.833,3.832 -3.847,3.817 -3.862,3.803 -3.878,3.789 -3.895,3.776 -3.912,3.765 -3.93,3.754 -3.948,3.744 -3.967,3.735 -3.987,3.727 -4.006,3.72 -4.026,3.714 -4.047,3.709 -4.067,3.705 -4.088,3.702 -4.109,3.701 -4.13,3.7 -4.151,3.701 -4.172,3.702 -4.193,3.705 -4.213,3.709 -4.234,3.714 -4.254,3.72 -4.273,3.727 -4.293,3.735 -4.312,3.744 -4.33,3.754 -4.348,3.765 -4.365,3.776 -4.382,3.789 -4.398,3.803 -4.413,3.817 -4.427,3.832 -4.441,3.848 -4.454,3.865 -4.465,3.882 -4.476,3.9 -4.486,3.918 -4.495,3.937 -4.503,3.957 -4.51,3.976 -4.516,3.996 -4.521,4.017 -4.525,4.037 -4.528,4.058 -4.529,4.079 -4.53,4.1 -4.53,4.7 -4.529,4.721 -4.528,4.742 -4.525,4.763 -4.521,4.783 -4.516,4.804 -4.51,4.824 -4.503,4.843 -4.495,4.863 -4.486,4.882 -4.476,4.9 -4.465,4.918 -4.454,4.935 -4.441,4.952 -4.427,4.968 -4.413,4.983 -4.398,4.997 -4.382,5.011 -4.365,5.024 -4.348,5.035 -4.33,5.046 -4.312,5.056 -4.293,5.065 -4.273,5.073 -4.254,5.08 -4.234,5.086 -4.213,5.091 -4.193,5.095 -4.172,5.098 -4.151,5.099 -4.13,5.1
  region: 4.151,5.099 4.172,5.098 4.193,5.095 4.213,5.091 4.234,5.086 4.254,5.08 4.273,5.073 4.293,5.065 4.312,5.056 4.33,5.046 4.348,5.035 4.365,5.024 4.382,5.011 4.398,4.997 4.413,4.983 4.427,4.968 4.441,4.952 4.454,4.935 4.465,4.918 4.476,4.9 4.486,4.882 4.495,4.863 4.503,4.843 4.51,4.824 4.516,4.804 4.521,4.783 4.525,4.763 4.528,4.742 4.529,4.721 4.53,4.7 4.53,4.1 4.529,4.079 4.528,4.058 4.525,4.037 4.521,4.017 4.516,3.996 4.51,3.976 4.503,3.957 4.495,3.937 4.486,3.918 4.476,3.9 4.465,3.882 4.454,3.865 4.441,3.848 4.427,3.832 4.413,3.817 4.398,3.803 4.382,3.789 4.365,3.776 4.348,3.765 4.33,3.754 4.312,3.744 4.293,3.735 4.273,3.727 4.254,3.72 4.234,3.714 4.213,3.709 4.193,3.705 4.172,3.702 4.151,3.701 4.13,3.7 4.109,3.701 4.088,3.702 4.067,3.705 4.047,3.709 4.026,3.714 4.006,3.72 3.987,3.727 3.967,3.735 3.948,3.744 3.93,3.754 3.912,3.765 3.895,3.776 3.878,3.789 3.862,3.803 3.847,3.817 3.833,3.832 3.819,3.848 3.806,3.865 3.795,3.882 3.784,3.9 3.774,3.918 3.765,3.937 3.757,3.957 3.75,3.976 3.744,3.996 3.739,4.017 3.735,4.037 3.732,4.058 3.731,4.079 3.73,4.1 3.73,4.7 3.731,4.721 3.732,4.742 3.735,4.763 3.739,4.783 3.744,4.804 3.75,4.824 3.757,4.843 3.765,4.863 3.774,4.882 3.784,4.9 3.795,4.918 3.806,4.935 3.819,4.952 3.833,4.968 3.847,4.983 3.862,4.997 3.878,5.011 3.895,5.024 3.912,5.035 3.93,5.046 3.948,5.056 3.967,5.065 3.987,5.073 4.006,5.08 4.026,5.086 4.047,5.091 4.067,5.095 4.088,5.098 4.109,5.099 4.13,5.1
Top Overlay:
  circle w0.2: c-2.8,8 r0.1
  lines w0.2: -4.925,-1.15 -4.925,-1.55 4.925,-1.55 4.925,-1.15 ; -4.925,1.15 -4.925,7.34 4.925,7.34 4.925,1.15
Top Solder:
  drawing of 5 lines, arcs and shapes, not listed
Bottom Solder:
  drawing of 5 lines, arcs and shapes, not listed
Mechanical 1:
  lines w0: 3.125,5.64 ccw(c3.45,5.64) 3.45,5.315 3.75,5.315 ccw(c3.75,5.64) 4.075,5.64 ccw(c3.75,5.64) 3.75,5.965 3.45,5.965 ccw(c3.45,5.64) 3.125,5.64
Mechanical 13:
  circle w0.2: c-2.8,8 r0.1
  lines w0.1: -6,-1.55 6,-1.55 ; -4.925,-2.53 -4.925,7.34 4.925,7.34 4.925,-2.53 -4.925,-2.53
  text "PCB Edge" at 5.5,-1.3 h0.81
Mechanical 15:
  lines w0.05: -5.175,-2.78 -5.175,7.59 5.175,7.59 5.175,-2.78 -5.175,-2.78
3D body "step_temp.STEP": height 3.26, standoff -1.2, extent -4.925,-2.53 4.925,7.34

## HDR_1x4_2R54_V_M [mm] "Male Header, Pitch 2.54mm, 4x1 Position, Mated Height 6mm, Tail Length 3mm"
height 6
pads (4):
  rect 1.5x1.5 hole 1.02: 1(0,0)
  round 1.5 hole 1.02: 2(2.54,0) 3(5.08,0) 4(7.62,0)
Top Overlay:
  circle w0.25: c-0.135,1.702 r0.059
  lines w0.2: 8.865,1.27 -1.27,1.27 -1.27,-1.27 8.89,-1.27 8.89,1.27
Mechanical 13:
  lines w0.025: -1.27,-0.762 -0.762,-1.27 ; -1.27,-0.762 -1.27,0.762 ; -1.27,-0.762 -1.27,0.762 ; -1.27,0.762 -0.762,1.27 0.762,1.27 1.27,0.762 ; -0.762,-1.27 0.762,-1.27 ; -0.762,-1.27 0.762,-1.27 ; 0.762,-1.27 1.27,-0.762 ; 1.27,-0.762 1.778,-1.27 ; 1.27,-0.762 1.27,0.762 ; 1.27,-0.762 1.27,0.762 ; 1.27,-0.762 1.27,0.762 ; 1.27,-0.762 1.27,0.762 ; 1.27,0.762 1.778,1.27 3.302,1.27 3.81,0.762 ; 1.778,-1.27 3.302,-1.27 ; 1.778,-1.27 3.302,-1.27 ; 3.302,-1.27 3.81,-0.762 ; 3.81,-0.762 4.318,-1.27 ; 3.81,-0.762 3.81,0.762 ; 3.81,-0.762 3.81,0.762 ; 3.81,-0.762 3.81,0.762 ; 3.81,-0.762 3.81,0.762 ; 3.81,0.762 4.318,1.27 5.842,1.27 6.35,0.762 ; 4.318,-1.27 5.842,-1.27 ; 4.318,-1.27 5.842,-1.27 ; 5.842,-1.27 6.35,-0.762 ; 6.35,-0.762 6.35,0.762 ; 6.35,-0.762 6.35,0.762
3D body: height 2.54, standoff 0, extent 6.35,-1.27 8.89,1.27
3D body: height 9, standoff -2.54, extent 7.27,-0.349 7.967,0.349
3D body: height 9, standoff -2.54, extent 4.73,-0.349 5.427,0.349
3D body: height 2.54, standoff 0, extent 3.81,-1.27 6.35,1.27
3D body: height 9, standoff -2.54, extent 2.19,-0.349 2.887,0.349
3D body: height 2.54, standoff 0, extent 1.27,-1.27 3.81,1.27
3D body: height 9, standoff -2.54, extent -0.35,-0.349 0.347,0.349
3D body: height 2.54, standoff 0, extent -1.27,-1.27 1.27,1.27

## LED0603 [mm]
pads (2):
  rect 0.8x1 smd: 1(-0.6,0) 2(1.05,0)
Top Overlay:
  lines w0.2: 0,-0.5 0,-0.25 0,0.25 0,0.5
Mechanical 14:
  lines w0.1: -0.65,-0.4 -0.65,0.4 ; 0.95,-0.4 0.95,0.4
3D body: height 0.95, standoff 0.1, extent -0.487,-0.475 1.037,0.475
3D body: height 0.1, standoff 0, extent -0.3,-0.475 0.85,0.475
3D body: height 0.1, standoff 0, extent 0.85,-0.475 1.224,0.475
3D body: height 0.1, standoff 0, extent -0.674,-0.475 -0.3,0.475